# Altium footprint library dian_recruitment_2022_V1.PcbLib: 4 footprints
Each footprint in its own frame and in the unit in brackets; x right, y up, seen from the top. Pads: shape width x height; smd on the part's side, far side on the other; paste and mask are expansions set on the pad; w line width, h text height; cw(c..) or ccw(c..) is an arc to the next point about the centre after c.
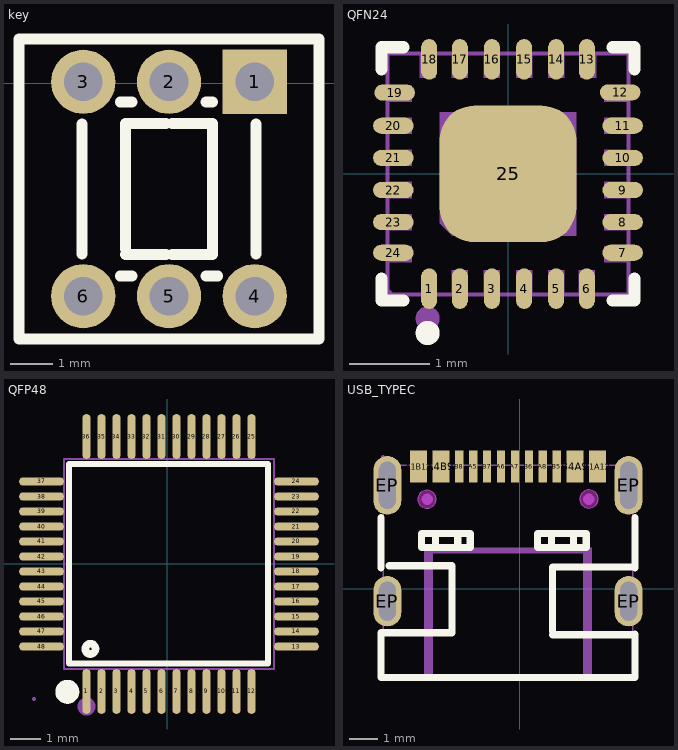
[diagram p0: the footprints below, top view; thin cyan lines are the x and y axes]

## key [mm]
pads (6):
  rect 1.5x1.5 hole 0.9 mask+0.05: 1(33.821,0.031)
  round 1.5 hole 0.9 mask+0.05: 2(31.821,0.031) 3(29.821,0.031) 4(33.821,-4.969) 5(31.821,-4.969) 6(29.821,-4.969)
Top Overlay:
  lines w0.254: 29.789,-3.988 29.789,-0.95 ; 30.683,-4.501 30.959,-4.501 ; 30.683,-0.437 30.959,-0.437 ; 30.805,-3.993 31.747,-3.993 ; 30.805,-3.866 30.805,-0.945 31.747,-0.945 ; 31.895,-3.993 32.837,-3.993 32.837,-0.945 31.895,-0.945 ; 32.683,-4.501 32.959,-4.501 ; 32.683,-0.437 32.84,-0.437 ; 33.853,-3.988 33.853,-0.95 ; 35.25,-5.969 28.321,-5.969 28.321,1.031 35.321,1.031 35.321,-5.969

## QFN24 [mm]
pads (25):
  oval 0.2x0.505 smd mask+0.051: 1(-0.981,-1.427) 2(-0.6,-1.427) 3(-0.2,-1.427) 4(0.2,-1.427) 5(0.6,-1.427) 6(0.981,-1.427) 13(0.981,1.427) 14(0.6,1.427) 15(0.2,1.427) 16(-0.2,1.427) 17(-0.6,1.427) 18(-0.981,1.427)
  oval 0.505x0.2 smd mask+0.051: 7(1.427,-0.981) 8(1.427,-0.6) 9(1.427,-0.2) 10(1.427,0.2) 11(1.427,0.6) 12(1.397,1.016) 19(-1.411,1.012) 20(-1.427,0.6) 21(-1.427,0.2) 22(-1.427,-0.2) 23(-1.427,-0.6) 24(-1.427,-0.981)
  rrect50% 1.7x1.7 smd mask+0.051: 25(0,0)
Top Overlay:
  circle w0.15: c-1,-1.98 r0.075
  lines w0.152: -1.576,-1.303 -1.576,-1.576 -1.303,-1.576 ; -1.576,1.303 -1.576,1.576 -1.303,1.576 ; 1.303,-1.576 1.576,-1.576 1.576,-1.303 ; 1.303,1.576 1.576,1.576 1.576,1.303
Mechanical 6:
  circle w0.15: c-1,-1.8 r0.075
Mechanical 15:
  region: -0.85,-0.616 -0.85,0.77 0.85,0.77 0.85,-0.77 -0.696,-0.77
  region: -1.44,-1.5 -1.44,-1.475 -1.475,-1.44 -1.525,-1.44 -1.56,-1.475 -1.56,-1.5 -1.56,-1.525 -1.525,-1.56 -1.475,-1.56 -1.44,-1.525
  region: -0.7,-1.5 -0.7,-1.2 -0.5,-1.2 -0.5,-1.5
  region: -0.3,-1.5 -0.3,-1.2 -0.1,-1.2 -0.1,-1.5
  region: 0.1,-1.5 0.1,-1.2 0.3,-1.2 0.3,-1.5
  region: 0.5,-1.5 0.5,-1.2 0.7,-1.2 0.7,-1.5
  region: 1.2,-1.1 1.2,-0.9 1.5,-0.9 1.5,-1.1
  region: 1.2,-0.7 1.2,-0.5 1.5,-0.5 1.5,-0.7
  region: 1.2,-0.3 1.2,-0.1 1.5,-0.1 1.5,-0.3
  region: 1.2,0.1 1.2,0.3 1.5,0.3 1.5,0.1
  region: 1.2,0.5 1.2,0.7 1.5,0.7 1.5,0.5
  region: 0.9,1.5 0.9,1.2 1.1,1.2 1.1,1.5
  region: 0.5,1.5 0.5,1.2 0.7,1.2 0.7,1.5
  region: 0.1,1.5 0.1,1.2 0.3,1.2 0.3,1.5
  region: -0.3,1.5 -0.3,1.2 -0.1,1.2 -0.1,1.5
  region: -0.7,1.5 -0.7,1.2 -0.5,1.2 -0.5,1.5
  region: -1.1,1.5 -1.1,1.2 -0.9,1.2 -0.9,1.5
  region: -1.2,0.9 -1.2,1.1 -1.5,1.1 -1.5,0.9
  region: -1.2,0.5 -1.2,0.7 -1.5,0.7 -1.5,0.5
  region: -1.2,0.1 -1.2,0.3 -1.5,0.3 -1.5,0.1
  region: -1.2,-0.3 -1.2,-0.1 -1.5,-0.1 -1.5,-0.3
  region: -1.2,-0.7 -1.2,-0.5 -1.5,-0.5 -1.5,-0.7
  region: 1.2,0.9 1.2,1.1 1.5,1.1 1.5,0.9
  region: -1.2,-1.1 -1.2,-0.9 -1.5,-0.9 -1.5,-1.1
  region: 0.881,-1.5 0.881,-1.2 1.081,-1.2 1.081,-1.5
  lines w0.051: -1.5,-1.5 -1.5,1.5 1.5,1.5 1.5,-1.5 -1.5,-1.5

## QFP48 [mm]
pads (48):
  oval 0.27x1.5 smd mask+0.05: 1(-2.691,-4.254) 2(-2.191,-4.254) 3(-1.691,-4.254) 4(-1.191,-4.254) 5(-0.691,-4.254) 6(-0.191,-4.254) 7(0.309,-4.254) 8(0.809,-4.254) 9(1.309,-4.254) 10(1.809,-4.254) 11(2.309,-4.254) 12(2.809,-4.254) 25(2.809,4.246) 26(2.309,4.246) 27(1.809,4.246) 28(1.309,4.246) 29(0.809,4.246) 30(0.309,4.246) 31(-0.191,4.246) 32(-0.691,4.246) 33(-1.191,4.246) 34(-1.691,4.246) 35(-2.191,4.246) 36(-2.691,4.246)
  oval 1.5x0.27 smd mask+0.05: 13(4.309,-2.754) 14(4.309,-2.254) 15(4.309,-1.754) 16(4.309,-1.254) 17(4.309,-0.754) 18(4.309,-0.254) 19(4.309,0.246) 20(4.309,0.746) 21(4.309,1.246) 22(4.309,1.746) 23(4.309,2.246) 24(4.309,2.746) 37(-4.191,2.746) 38(-4.191,2.246) 39(-4.191,1.746) 40(-4.191,1.246) 41(-4.191,0.746) 42(-4.191,0.246) 43(-4.191,-0.254) 44(-4.191,-0.754) 45(-4.191,-1.254) 46(-4.191,-1.754) 47(-4.191,-2.254) 48(-4.191,-2.754)
Top Overlay:
  circle w0.254: c-2.561,-2.834 r0.17
  lines w0.2: -2.837,3.336 3.361,3.336 3.361,-3.319 -3.268,-3.319 -3.268,3.336 -2.506,3.336
  lines w0.4: -3.331,-4.064 ccw(c-3.33,-4.264) -3.329,-4.064
Mechanical 6:
  circle w0.3: c-2.691,-4.754 r0.15
Mechanical 15:
  drawing of 101 lines, arcs and shapes, not listed

## USB_TYPEC [mm]
pads (16):
  rect 0.6x1.15 smd mask+0.05: A1B12(-3.618,4.375) A4B9(-2.818,4.375) B1A12(2.782,4.375) B4A9(1.982,4.375)
  rect 0.3x1.15 smd mask+0.05: A5(-1.668,4.375) A6(-0.668,4.375) A7(-0.168,4.375) A8(0.832,4.375) B5(1.332,4.375) B6(0.332,4.375) B7(-1.168,4.375) B8(-2.168,4.375)
  oval 1x1.8 hole 0.6 slot 1.4 at 90 deg mask+0.05: EP(-4.738,-0.445) EP(3.902,-0.445)
  oval 1x2.1 hole 0.6 slot 1.7 at 90 deg mask+0.05: EP(-4.738,3.705) EP(3.902,3.705)
Top Overlay:
  lines w0.254: -4.968,0.744 -4.968,1.975 -4.968,2.556 ; -4.668,0.825 -2.418,0.825 -2.418,-1.575 -4.968,-1.575 -4.968,-3.175 4.132,-3.175 4.132,-1.625 ; -3.518,1.975 -3.518,1.475 -1.768,1.475 -1.768,1.975 -3.468,1.975 ; -3.018,1.475 -3.018,1.975 ; -2.218,1.475 -2.218,1.975 ; 0.633,1.975 0.633,1.475 2.383,1.475 2.383,1.975 0.683,1.975 ; 1.133,1.475 1.133,1.975 ; 1.182,-1.644 4.132,-1.644 ; 1.182,-1.524 1.182,0.775 4.132,0.775 ; 1.933,1.475 1.933,1.975 ; 4.132,0.744 4.132,2.556
Top Paste:
  drawing of 16 lines, arcs and shapes, not listed
Keep-Out Layer:
  board cut-out: -2.993,3.205 -2.993,3.27 -3.042,3.389 -3.134,3.48 -3.253,3.53 -3.383,3.53 -3.502,3.48 -3.593,3.389 -3.643,3.27 -3.643,3.205 -3.643,3.14 -3.593,3.021 -3.502,2.929 -3.383,2.88 -3.253,2.88 -3.134,2.929 -3.042,3.021 -2.993,3.14
  board cut-out: 2.807,3.215 2.807,3.28 2.757,3.399 2.666,3.491 2.547,3.54 2.417,3.54 2.298,3.491 2.206,3.399 2.157,3.28 2.157,3.215 2.157,3.15 2.206,3.031 2.298,2.94 2.417,2.89 2.547,2.89 2.666,2.94 2.757,3.031 2.807,3.15
Mechanical 1:
  circle w0.005: c-3.318,3.205 r0.325
  circle w0.005: c2.482,3.215 r0.325
Mechanical 6:
  circle w0.3: c-3.618,4.625 r0.15
  circle w0.2: c2.472,3.205 r0.1
  circle w0.2: c-3.308,3.205 r0.1
  region: -3.418,-3.035 -3.418,1.465 2.582,1.465 2.582,-3.035 2.282,-3.035 2.282,1.265 -3.118,1.265 -3.118,-3.035
Mechanical 15:
  region: -4.828,4.725 -4.828,4.75 -4.863,4.785 -4.913,4.785 -4.948,4.75 -4.948,4.725 -4.948,4.7 -4.913,4.665 -4.863,4.665 -4.828,4.7
  region: 1.257,4.725 1.407,4.725 1.407,4.025 1.257,4.025
  region: 0.757,4.725 0.907,4.725 0.907,4.025 0.757,4.025
  region: 0.257,4.725 0.407,4.725 0.407,4.025 0.257,4.025
  region: -0.243,4.725 -0.093,4.725 -0.093,4.025 -0.243,4.025
  region: -0.743,4.725 -0.593,4.725 -0.593,4.025 -0.743,4.025
  region: -1.243,4.725 -1.093,4.725 -1.093,4.025 -1.243,4.025
  region: -1.743,4.725 -1.593,4.725 -1.593,4.025 -1.743,4.025
  region: -2.243,4.725 -2.093,4.725 -2.093,4.025 -2.243,4.025
  region: 2.632,4.725 2.932,4.725 2.932,4.025 2.632,4.025
  region: 1.832,4.725 2.132,4.725 2.132,4.025 1.832,4.025
  region: -2.968,4.725 -2.668,4.725 -2.668,4.025 -2.968,4.025
  region: -3.768,4.725 -3.468,4.725 -3.468,4.025 -3.768,4.025
  region: 3.752,4.255 4.052,4.255 4.052,3.155 3.752,3.155
  region: -4.888,4.255 -4.588,4.255 -4.588,3.155 -4.888,3.155
  region: 3.752,-0.045 4.052,-0.045 4.052,-0.845 3.752,-0.845
  region: -4.888,-0.045 -4.588,-0.045 -4.588,-0.845 -4.888,-0.845
  lines w0.051: -4.888,-3.085 -4.888,4.415 4.052,4.415 4.052,-3.085 -4.888,-3.085